# Altium integrated library XB24-Z7WIT-004.IntLib: 1 symbol
Pins are listed as number, name and electrical type; pins without a type are passive.

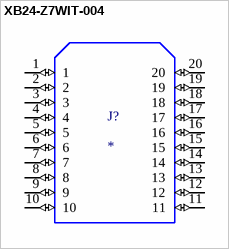
[diagram p0: symbol XB24-Z7WIT-004]

## XB24-Z7WIT-004
designator J?
Xbee Zb (Zigbee Pro Feature Set), 1mw, Wire Antenna, 250000; MP: XB24-Z7WIT-004; Package: None; Price: None; Value: *; Availability: Unavailable
footprint DIP-20
pins: 1 (io), 2 (io), 3 (io), 4 (io), 5 (io), 6 (io), 7 (io), 8 (io), 9 (io), 10 (io), 11 (io), 12 (io), 13 (io), 14 (io), 15 (io), 16 (io), 17 (io), 18 (io), 19 (io), 20 (io)